# EAGLE library part BMP180 (library Custom_old)
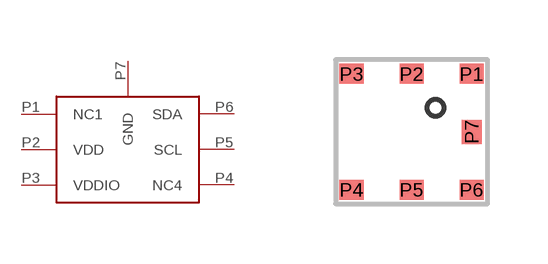
[diagram p9: symbol with the pads of BMP180; footprint BMP180]

Designator prefix -

## BMP180  [BMP180]
P1  NC1
P2  VDD
P3  VDDIO
P4  NC4
P5  SCL
P6  SDA
P7  GND

## Footprint BMP180 (pad centres in mm)
smd 0.6 x 0.5: P1 1.5,1.45; P2 0,1.45; P3 -1.5,1.45; P4 -1.5,-1.45; P5 0,-1.45; P6 1.5,-1.45
smd 0.5 x 0.6: P7 1.5,0